# Altium footprint library K104K10X7RF53H5.PcbLib: 1 footprints
Each footprint in its own frame and in the unit in brackets; x right, y up, seen from the top. Pads: shape width x height; smd on the part's side, far side on the other; paste and mask are expansions set on the pad; w line width, h text height; cw(c..) or ccw(c..) is an arc to the next point about the centre after c.
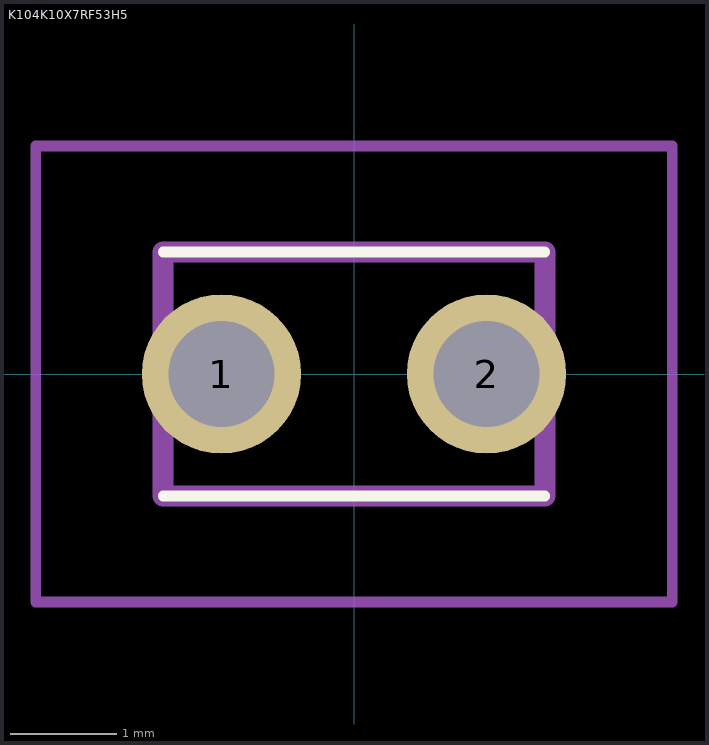
[diagram p0: the footprint, top view; thin cyan lines are the x and y axes]

## K104K10X7RF53H5 [mm]
pads (2):
  round 1.5 hole 1: 1(-1.25,0) 2(1.25,0)
Top Overlay:
  lines w0.1: -1.8,-1.15 1.8,-1.15 ; -1.8,1.15 1.8,1.15
Mechanical 15:
  lines w0.2: -1.8,-1.15 1.8,-1.15 1.8,1.15 -1.8,1.15 -1.8,-1.15
Mechanical 20:
  lines w0.1: -3,-2.15 3,-2.15 3,2.15 -3,2.15 -3,-2.15